# EAGLE library part TLE-130-01-G-DV (library SamacSys_Parts)
60 Position, Dual-Row, 2.00 mm Tiger Beam™ Cost-effective Single Beam Socket Strip Source: Datasheet <http://suddendocs.samtec.com/prints/tle-1xx-xx-x-dv-x-mkt1.pdf>
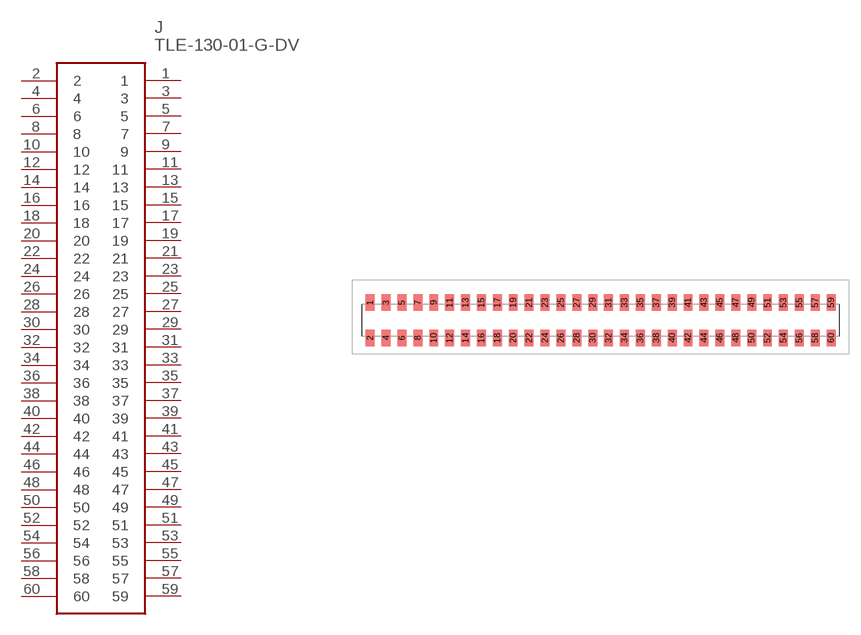
[diagram p176: symbol with the pads of TLE-130-01-G-DV; footprint TLE-130-01-G-DV]

Designator prefix J

## TLE-130-01-G-DV (DESCRIPTION: 60 Position, Dual-Row, 2.00 mm Tiger Beam&trade; Cost-effective Single Beam Socket Strip; HEIGHT: 4.496mm; MANUFACTURER_NAME: SAMTEC; MANUFACTURER_PART_NUMBER: TLE-130-01-G-DV; MOUSER_PART_NUMBER: 200-TLE13001GDV; MOUSER_PRICE-STOCK: https://www.mouser.co.uk/ProductDetail/Samtec/TLE-130-01-G-DV?qs=0lQeLiL1qyauassPdy%252BMPg%3D%3D)  [TLE-130-01-G-DV]
1  1
2  2
3  3
4  4
5  5
6  6
7  7
8  8
9  9
10  10
11  11
12  12
13  13
14  14
15  15
16  16
17  17
18  18
19  19
20  20
21  21
22  22
23  23
24  24
25  25
26  26
27  27
28  28
29  29
30  30
31  31
32  32
33  33
34  34
35  35
36  36
37  37
38  38
39  39
40  40
41  41
42  42
43  43
44  44
45  45
46  46
47  47
48  48
49  49
50  50
51  51
52  52
53  53
54  54
55  55
56  56
57  57
58  58
59  59
60  60

## Footprint TLE-130-01-G-DV (pad centres in mm)
TLE-130-01-G-DV
smd 1.12 x 2.105: 1 -29,2.223; 2 -29,-2.223; 3 -27,2.223; 4 -27,-2.223; 5 -25,2.223; 6 -25,-2.223; 7 -23,2.223; 8 -23,-2.223; 9 -21,2.223; 10 -21,-2.223; 11 -19,2.223; 12 -19,-2.223; 13 -17,2.223; 14 -17,-2.223; 15 -15,2.223; 16 -15,-2.223; 17 -13,2.223; 18 -13,-2.223; 19 -11,2.223; 20 -11,-2.223; 21 -9,2.223; 22 -9,-2.223; 23 -7,2.223; 24 -7,-2.223; 25 -5,2.223; 26 -5,-2.223; 27 -3,2.223; 28 -3,-2.223; 29 -1,2.223; 30 -1,-2.223; 31 1,2.223; 32 1,-2.223; 33 3,2.223; 34 3,-2.223; 35 5,2.223; 36 5,-2.223; 37 7,2.223; 38 7,-2.223; 39 9,2.223; 40 9,-2.223; 41 11,2.223; 42 11,-2.223; 43 13,2.223; 44 13,-2.223; 45 15,2.223; 46 15,-2.223; 47 17,2.223; 48 17,-2.223; 49 19,2.223; 50 19,-2.223; 51 21,2.223; 52 21,-2.223; 53 23,2.223; 54 23,-2.223; 55 25,2.223; 56 25,-2.223; 57 27,2.223; 58 27,-2.223; 59 29,2.223; 60 29,-2.223